# Altium footprint library maxim-packages.PcbLib: 1 footprints
Each footprint in its own frame and in the unit in brackets; x right, y up, seen from the top. Pads: shape width x height; smd on the part's side, far side on the other; paste and mask are expansions set on the pad; w line width, h text height; cw(c..) or ccw(c..) is an arc to the next point about the centre after c.
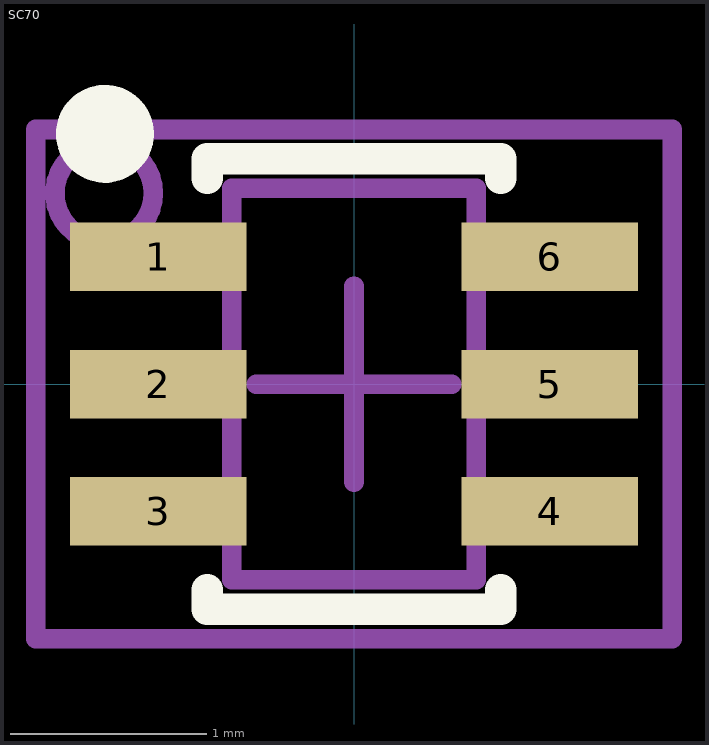
[diagram p0: the footprint, top view; thin cyan lines are the x and y axes]

## SC70 [mm] "6-Lead Plastic surface-mounted package, 0.65mm pitch, SOT363/SC-88"
height 1.1
pads (6):
  rect 0.9x0.35 smd: 1(-1,0.65) 2(-1,0) 3(-1,-0.65) 4(1,-0.65) 5(1,0) 6(1,0.65)
Top Overlay:
  circle w0.25: c-1.272,1.278 r0.125
  lines w0.16: -0.75,-1.05 -0.75,-1.15 0.75,-1.15 0.75,-1.05 ; -0.75,1.05 -0.75,1.15 0.75,1.15 0.75,1.05
Mechanical 13:
  lines w0.1: -0.5,0 0.5,0 ; 0,-0.5 0,0.5 ; -0.625,-1 -0.625,1 0.625,1 0.625,-1 -0.625,-1
Mechanical 15:
  circle w0.1: c-1.276,0.975 r0.251
  lines w0.1: -1.625,-1.3 -1.625,1.3 1.625,1.3 1.625,-1.3 -1.625,-1.3
  text ".Designator" at -0.2,1.125 h0.5
3D body: height 1.01, standoff 0.02, extent -1.05,-1 1.05,1